# Altium integrated library Peltec.IntLib: 28 symbols
Pins are listed as number, name and electrical type; pins without a type are passive.

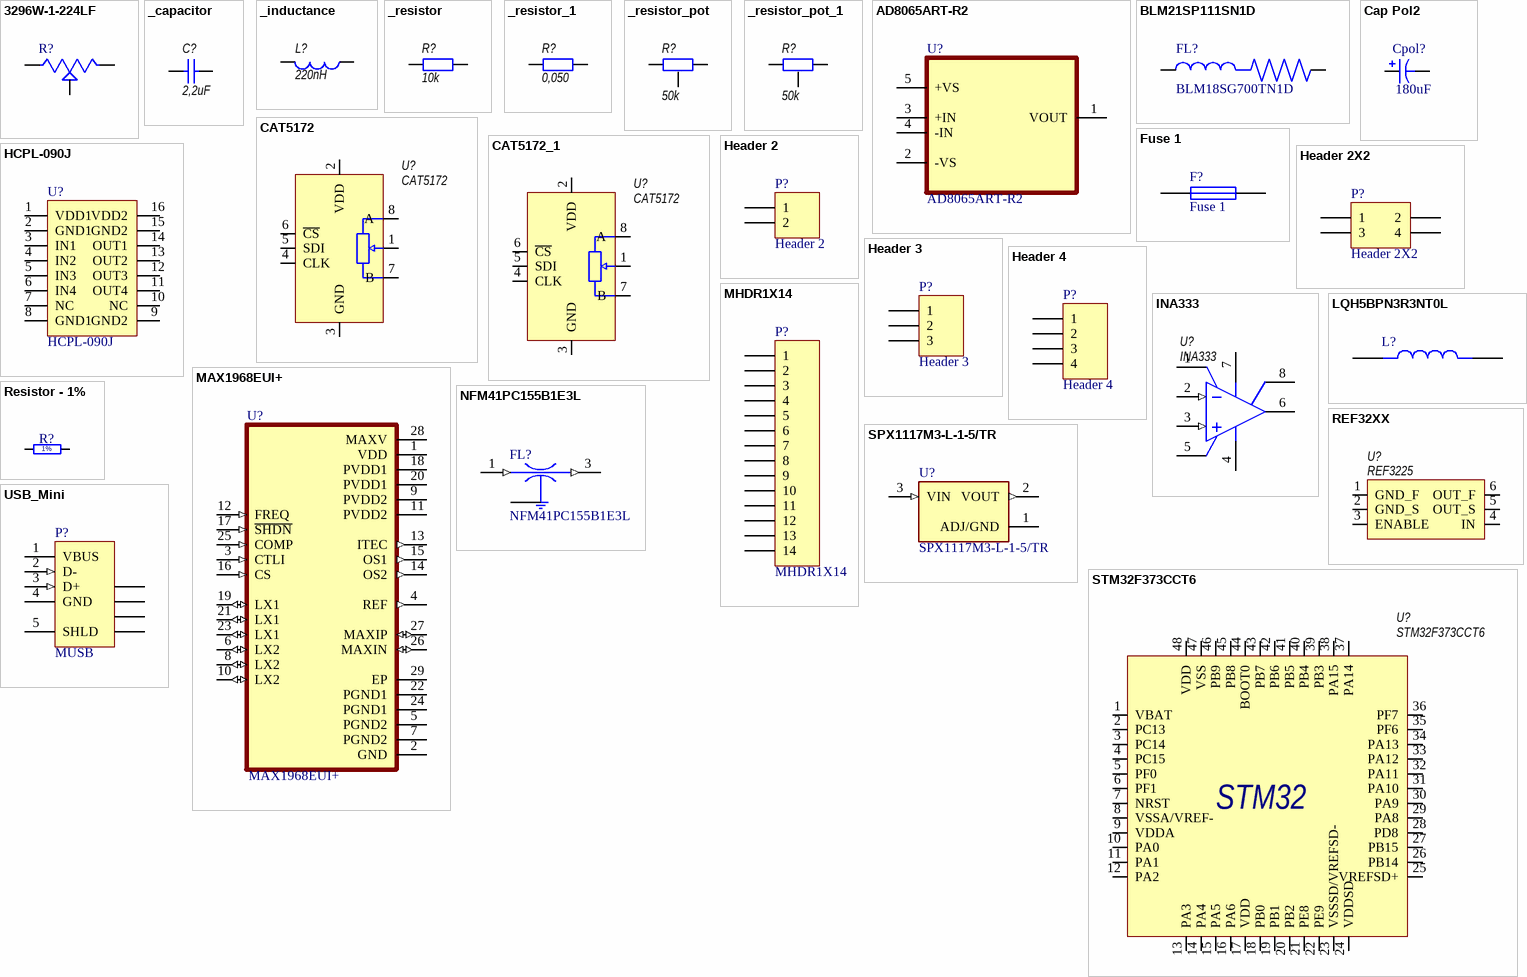
[diagram p0: symbols 3296W-1-224LF to USB_Mini]

## 3296W-1-224LF
designator R?
Trimmer Resistors - Through Hole; MP: 3296W-1-224LF; MF: Bourns; Availability: Unavailable; SnapEDA_Link: https://www.snapeda.com/parts/3296W-1-224LF/Bourns/view-part/2705744/?ref=snap; Value: *; Price: None; Package: None
footprint TRIM_3296W-1-224LF
footprint TRIM_3296X-1-203LF
pins: 1 CCW, 2 WIPER, 3 CW

## _capacitor
designator C?, comment 2,2uF
Model: 0603 100n; Value: 100n
footprint 0805 (Chip Resistor, EIA 0805, Metric 2012, Body 2.0x1.25mm, IPC Medium Density)
footprint 0603 (Chip Resistor, EIA 0603, Metric 1608, Body 1.6x0.8mm, IPC Medium Density)
pins: 1, 2
1 alternate drawing of the same symbol

## _inductance
designator L?, comment 220nH
Inductance; Model: 0603 220nH; Value: 220nH
footprint 0603_ (Chip Resistor, EIA 0603, Metric 1608, Body 1.6x0.8mm, IPC Medium Density)
footprint 0805
pins: 1 7, 2 8

## _resistor
designator R?, comment 10k
Model: 0603 10k; Value: 10k
footprint 0805 (Chip Resistor, EIA 0805, Metric 2012, Body 2.0x1.25mm, IPC Medium Density)
footprint 0603 (Chip Resistor, EIA 0603, Metric 1608, Body 1.6x0.8mm, IPC Medium Density)
pins: 1, 2

## _resistor_1
designator R?, comment 0,050
Model: 0603 100; Value: 100
footprint 0805 (Chip Resistor, EIA 0805, Metric 2012, Body 2.0x1.25mm, IPC Medium Density)
footprint RESC3216X65N
pins: 1, 2

## _resistor_pot
designator R?, comment 50k
3224J; Model: 3266P-1-102LF; Value: 1k
footprint R16K1
footprint R-Tr 3107W
footprint TRIM_3296X-1-203LF
pins: 1, 2, 3

## _resistor_pot_1
designator R?, comment 50k
3224J; Model: 3266P-1-102LF; Value: 1k
footprint R16K1
footprint TRIM_3296X-1-203LF
pins: 1, 2, 3

## AD8065ART-R2
designator U?
Ð£ÑÐ¸Ð»Ð¸Ñ‚ÐµÐ»ÑŒ Ð¾Ð±Ñ€Ð°Ñ‚Ð½Ð¾Ð¹ ÑÐ²ÑÐ·Ð¸ Ð¿Ð¾ Ð½Ð°Ð¿Ñ€ÑÐ¶ÐµÐ½Ð¸ÑŽ 1 Ñ†ÐµÐ¿ÑŒ Ñ€ÐµÐ»ÑŒÑ-Ñ€ÐµÐ»ÑŒÑ SOT-23-5; MF: Analog Devices; MP: AD8065ART-R2; Package: SOT-23-5 Analog Devices; SnapEDA_Link: https://www.snapeda.com/parts/AD8065ART-R2/Analog%20Devices%20Inc./view-part/888431/?ref=snap; Price: None; Availability: Unavailable; Value: *; DigiKey-Purchase-URL: https://snapeda.com/shop?store=DigiKey&id=888431
footprint SOT95P290X145-5N
pins: 1 VOUT, 2 -VS (power), 3 +IN, 4 -IN, 5 +VS (power)

## BLM21SP111SN1D
designator FL?, comment BLM18SG700TN1D
110 Ð¾Ð¼ @ 100 ÐœÐ“Ñ† 1 Ð»Ð¸Ð½Ð¸Ñ ÑÐ»ÐµÐºÑ‚Ñ€Ð¾Ð¿ÐµÑ€ÐµÐ´Ð°Ñ‡ Ñ„ÐµÑ€Ñ€Ð¸Ñ‚Ð¾Ð²Ñ‹Ð¹ ÑˆÐ°Ñ€Ð¸Ðº 0805 (2012 ÐœÐµÑ‚Ñ€Ð¸ÐºÐ°) 5A; MF: Murata; MP: BLM21SP111SN1D; Price: None; Value: *; SnapEDA_Link: https://www.snapeda.com/parts/BLM21SP111SN1D/Murata/view-part/4302973/?ref=snap; Package: 2012 Murata; Availability: Unavailable
footprint BEADC2012X105N
pins: 1, 2

## Cap Pol2
designator Cpol?, comment 180uF
Polarized Capacitor (Axial); Published: 8-Jun-2000; LatestRevisionDate: 17-Jul-2002; LatestRevisionNote: Re-released for DXP Platform.; PackageReference: POLAR0.8; Publisher: Altium Limited; PackageDescription: Polarized Capacitor; 2 Leads
footprint POLAR0.8 (Polarized Capacitor; 2 Leads)
simulation model CAP (Capacitor)
signal-integrity model Cap Pol
footprint CAPPM7343X310N
pins: 1, 2
1 alternate drawing of the same symbol

## CAT5172
designator U?
Digital potentiometr 256-position SPI; Model: CAT5172; ComponentLink1Description: Datasheet; ComponentLink1URL: X:\Projects\__MY_AD_LIB\Datasheets\CAT5172.pdf
footprint SOT238 (Footprint not found)
footprint SOT65P280X100-8N
pins: 1, 2 VDD, 3 GND, 4 CLK, 5 SDI, 6 ~{CS}, 7 B, 8 A

## CAT5172_1
designator U?, comment CAT5172
Digital potentiometr 256-position SPI; Model: CAT5172; ComponentLink1Description: Datasheet; ComponentLink1URL: X:\Projects\__MY_AD_LIB\Datasheets\CAT5172.pdf
footprint SOT65P280X100-8N
pins: 1, 2 VDD, 3 GND, 4 CLK, 5 SDI, 6 ~{CS}, 7 B, 8 A

## Fuse 1
designator F?
Fuse; Published: 8-Jun-2000; LatestRevisionDate: 17-Jul-2002; LatestRevisionNote: Re-released for DXP Platform.; PackageReference: PIN-W2/E2.8; Publisher: Altium Limited; PackageDescription: Thru-Hole; 2 Leads
footprint PIN-W2/E2.8 (Thru-Hole; 2 Leads)
simulation model FUSE (Spice Subcircuit)
footprint FUSER_MF-MSMF200-2
pins: 1, 2

## HCPL-090J
designator U?
footprint *SOIC127P600X175-16N
pins: 1 VDD1, 2 GND1, 3 IN1, 4 IN2, 5 IN3, 6 IN4, 7 NC, 8 GND1, 9 GND2, 10 NC, 11 OUT4, 12 OUT3, 13 OUT2, 14 OUT1, 15 GND2, 16 VDD2

## Header 2
designator P?
Header, 2-Pin; LatestRevisionDate: 17-Jul-2002; LatestRevisionNote: Re-released for DXP Platform.; Publisher: Altium Limited
footprint HDR1X2 (Connector; Header; 2 Position)
signal-integrity model Connector
pins: 1, 2

## Header 2X2
designator P?
Header, 2-Pin, Dual row; LatestRevisionDate: 17-Jul-2002; LatestRevisionNote: Re-released for DXP Platform.; Publisher: Altium Limited
footprint HDR2X2 (Connector; Header; 2x2 Position)
signal-integrity model Connector
pins: 1, 2, 3, 4

## Header 3
designator P?
Header, 3-Pin; LatestRevisionDate: 17-Jul-2002; LatestRevisionNote: Re-released for DXP Platform.; Publisher: Altium Limited
footprint HDR1X3 (Connector; Header; 3 Position)
signal-integrity model Connector
pins: 1, 2, 3

## Header 4
designator P?
Header, 4-Pin; LatestRevisionDate: 17-Jul-2002; LatestRevisionNote: Re-released for DXP Platform.; Publisher: Altium Limited
signal-integrity model Connector
footprint HDR1X4 - WA
footprint HDR1X4 (Разъем двухрядный, шаг 2,54 мм.)
footprint HDR1X4 - WA
footprint HDR1X4 (Connector; Header; 4 Position)
pins: 1, 2, 3, 4

## INA333
designator U?
Model: INA333; ComponentLink1Description: Datasheet; ComponentLink1URL: X:\Projects\__MY_AD_LIB\Datasheets\INA333.pdf
footprint SOP65P490X110-8N
pins: 1 RG (power), 2 IN- (in), 3 IN+ (in), 4 V- (power), 5 REF (power), 6 OUT (oc), 7 V+ (power), 8 RG (power)

## LQH5BPN3R3NT0L
designator L?
Ð˜Ð½Ð´ÑƒÐºÑ‚Ð¾Ñ€ Ñ Ð¸Ð½Ð´ÑƒÐºÑ‚Ð¸Ð²Ð½Ð¾ÑÑ‚ÑŒÑŽ: 3,3 uH Tol. + / -30%, Ð¿Ð°ÐºÐµÑ‚: 2020 (5050); MF: Murata; MP: LQH5BPN3R3NT0L; Package: - Murata; Price: None; Value: *; SnapEDA_Link: https://www.snapeda.com/parts/LQH5BPN3R3NT0L/Murata/view-part/4550758/?ref=snap; Availability: Unavailable
footprint IND_LQH5BPN3R3NT0L
footprint IHLP
pins: 1, 2

## MAX1968EUI+
designator U?
Thermoelectric Cooler PMIC 28-TSSOP-EP; MF: Maxim Integrated; MP: MAX1968EUI+; SnapEDA_Link: https://www.snapeda.com/parts/MAX1968EUI+/Maxim%20Integrated/view-part/43529/?ref=snap; Availability: Unavailable; Value: *; Package: TSSOP-28 Maxim; Price: None
footprint SOP65P637X110-29N
footprint SOP65P637X110-29N
pins: 1 VDD (power), 2 GND (power), 3 CTLI (in), 4 REF (out), 5 PGND2 (power), 6 LX2 (io), 7 PGND2 (power), 8 LX2 (io), 9 PVDD2 (power), 10 LX2 (io), 11 PVDD2 (power), 12 FREQ (in), 13 ITEC (out), 14 OS2 (out), 15 OS1 (out), 16 CS (in), 17 ~{SHDN} (in), 18 PVDD1 (power), 19 LX1 (io), 20 PVDD1 (power), 21 LX1 (io), 22 PGND1 (power), 23 LX1 (io), 24 PGND1 (power), 25 COMP (in), 26 MAXIN (io), 27 MAXIP (io), 28 MAXV (power), 29 EP

## MHDR1X14
designator P?
Header, 14-Pin; LatestRevisionDate: 17-Jul-2002; LatestRevisionNote: Re-released for DXP Platform.; Publisher: Altium Limited
footprint MHDR1X14 (Connector; Header; 14 Position)
signal-integrity model Connector
footprint HDR1X14 (Connector; Header; 14 Position)
pins: 1, 2, 3, 4, 5, 6, 7, 8, 9, 10, 11, 12, 13, 14

## NFM41PC155B1E3L
designator FL?
ÐšÐ¾Ð½Ð´ÐµÐ½ÑÐ°Ñ‚Ð¾Ñ€ SMD Ñ ÐµÐ¼ÐºÐ¾ÑÑ‚ÑŒÑŽ: 1.5 ÐœÐšÐ¤ Ð¢Ð¾Ð». 20%. ÐÐ¾Ð¼Ð¸Ð½Ð°Ð»ÑŒÐ½Ð¾Ðµ Ð½Ð°Ð¿Ñ€ÑÐ¶ÐµÐ½Ð¸Ðµ: 25Vdc; MF: Murata; Price: None; Value: *; SnapEDA_Link: https://www.snapeda.com/parts/NFM41PC155B1E3L/Murata/view-part/4383493/?ref=snap; Package: NONSTANDARD; Availability: Unavailable; DigiKey-Purchase-URL: https://snapeda.com/shop?store=DigiKey&id=4383493; MP: NFM41PC155B1E3L
footprint FIL_NFM41PC155B1E3L
pins: 1 IN (in), 2 GND (power), 2_1 GND (power), 2_3 GND (power), 2_4 GND (power), 3 OUT (out)

## REF32XX
designator U?, comment REF3225
SERIES VOLTAGE REFERENCE; Model: REF3225; ComponentLink1URL: X:\Projects\__MY_AD_LIB\Datasheets\ref3233.pdf; ComponentLink1Description: Datasheet
footprint SOT23-6
pins: 1 GND_F, 2 GND_S, 3 ENABLE, 4 IN, 5 OUT_S, 6 OUT_F

## Resistor - 1%
designator R?, comment 2k7  (value not drawn)
Resistor - 1%; Part Number: R0603_2K7_1%_0.1W_100PPM; Part Description: General Purpose Thick Film Chip Resistor; Manufacturer: GENERIC; Manufacturer1 Part Number: RC0603FR-072K7L; Power: 0.1W; TC: ±100ppm/°C; Table: Resistors SMD; Component Kind: Standard; Component Type: Standard; Footprint: RESC1608X55N; Pin Count: 2; Value: 2k7; Status: Preferred; Tolerance: ±1%; Manufacturer Part Number: R0603_2K7_1%_0.1W_100PPM; Case: 0603; Mounted: Yes; Socket: No; SMD: Yes; Manufacturer1 Example: YAGEO PHYCOMP; Manufacturer1 ComponentHeight: 0.55mm; HelpURL: \\cern.ch\dfs\Applications\Altium\Datasheets\R0603_PHYCOMP_RC0603.pdf; Author: CERN DEM JLC; CreateDate: 02.05.2011; LatestRevisionDate: 02.05.2011
footprint RESC1608X55N
footprint RESC1608X55N
footprint 0603
pins: 1, 2
text: 1%

## SPX1117M3-L-1-5/TR
designator U?
Ð›Ð¸Ð½ÐµÐ¹Ð½Ñ‹Ð¹ Ñ€ÐµÐ³ÑƒÐ»ÑÑ‚Ð¾Ñ€ Ð½Ð°Ð¿Ñ€ÑÐ¶ÐµÐ½Ð¸Ñ IC 1 Ð²Ñ‹Ñ…Ð¾Ð´ 800mA SOT-223; MF: Exar Corporation; Package: SOT-223 Exar; Availability: Unavailable; Value: *; MP: SPX1117M3-L-1-5/TR; Arrow_Electronics-Purchase-URL: https://snapeda.com/shop?store=Arrow+Electronics&id=521661; Price: None; SnapEDA_Link: https://www.snapeda.com/parts/SPX1117M3-L-1-5/TR/Exar%20Corporation/view-part/521661/?ref=snap; Mouser-Purchase-URL: https://snapeda.com/shop?store=Mouser&id=521661
footprint SOT230P700X180-3N
pins: 1 ADJ/GND (power), 2 VOUT (out), 3 VIN (in)

## STM32F373CCT6
designator U?
Microcontroller; Model: STM32F373CCT6
footprint LQFP48 (QFP, 0.50mm Pitch, Square, 12 pin X 12 Pin, 7.00mm X 7.00mm X 1.20mm Body, IPC Medium Density)
pins: 1 VBAT, 2 PC13, 3 PC14, 4 PC15, 5 PF0, 6 PF1, 7 NRST, 8 VSSA/VREF-, 9 VDDA, 10 PA0, 11 PA1, 12 PA2, 13 PA3, 14 PA4, 15 PA5, 16 PA6, 17 VDD, 18 PB0, 19 PB1, 20 PB2, 21 PE8, 22 PE9, 23 VSSSD/VREFSD-, 24 VDDSD, 25 VREFSD+, 26 PB14, 27 PB15, 28 PD8, 29 PA8, 30 PA9, 31 PA10, 32 PA11, 33 PA12, 34 PA13, 35 PF6, 36 PF7, 37 PA14, 38 PA15, 39 PB3, 40 PB4, 41 PB5, 42 PB6, 43 PB7, 44 BOOT0, 45 PB8, 46 PB9, 47 VSS, 48 VDD
text: STM32

## USB_Mini
designator P?, comment MUSB
mini USB; ContactMaterial: Copper Alloy; ContactPlating: Gold (30); PCB_Layout: Complies with manufacturer's recommendation.; DrillSize: Corresponds to nominal value.; PanelGround: Without; Published: 15-Jul-2004; DatasheetDocument: 27-Jun-2003; PackageDocument: 27-Jun-2003; PackageReference: 440247; Publisher: Altium Limited; HousingMaterial: Thermoplastic; ComponentLink1Description: Manufacturer Link; ComponentLink1URL: http://www.tycoelectronics.com/; ComponentLink2Description: Packaging Specification; ComponentLink2URL: http://ecommas.tycoelectronics.com/commerce/DocumentDelivery/DDEController?Action=showdoc&DocId=Customer+Drawing%7F440247%7FD%7Fpdf%7FEnglish%7FC_440247_D.pdf
footprint miniUSB-SMD-VERTICAL
footprint miniUSB-SMD-VERTICAL
footprint SAMTEC_USB-B-S-X-X-TH
pins: 1 VBUS (power) "Power", 2 D- (in) "-DATA", 3 D+ (in) "+DATA", 4 GND (power) "Ground", 5 SHLD "Shield", 6 SHLD "Shield", 7 SHLD "Shield", 8 SHLD "Shield", 9 SHLD "Shield"